# Altium footprint library Conn.AVX.PcbLib: 1 footprints
Each footprint in its own frame and in the unit in brackets; x right, y up, seen from the top. Pads: shape width x height; smd on the part's side, far side on the other; paste and mask are expansions set on the pad; w line width, h text height; cw(c..) or ccw(c..) is an arc to the next point about the centre after c.
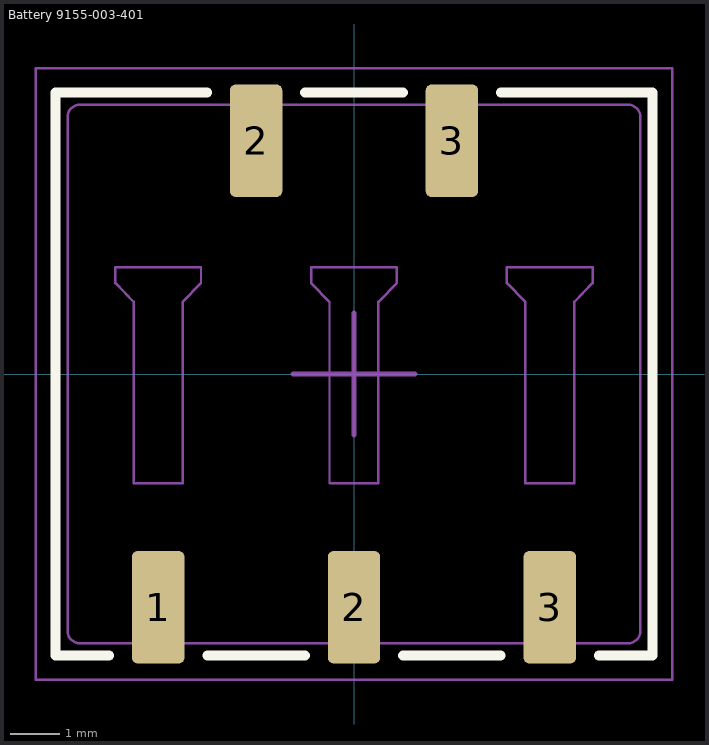
[diagram p0: the footprint, top view; thin cyan lines are the x and y axes]

## Battery 9155-003-401 [mm] "AVX Battery Connector, 3-Leads, 4.00mm Pitch"
height 4.9
pads (5):
  rrect20% 1.07x2.29 smd: 1(-4,-4.765) 2(-2,4.765) 2(0,-4.765) 3(2,4.765) 3(4,-4.765)
Top Overlay:
  lines w0.2: -5,-5.75 -6.1,-5.75 -6.1,5.75 -3,5.75 ; -3,-5.75 -1,-5.75 ; -1,5.75 1,5.75 ; 1,-5.75 3,-5.75 ; 3,5.75 6.1,5.75 6.1,-5.75 5,-5.75
Mechanical 1:
  lines w0.05: -4.38,-5.5 -4.38,-5.57 -3.62,-5.57 -3.62,-5.5 ; -2.37,5.5 -2.37,5.53 cw(c-2.27,5.53) -2.27,5.63 -1.71,5.63 cw(c-1.71,5.53) -1.61,5.53 -1.61,5.5 ; -0.38,-5.5 -0.38,-5.57 0.38,-5.57 0.38,-5.5 ; 1.63,5.5 1.63,5.53 cw(c1.73,5.53) 1.73,5.63 2.29,5.63 cw(c2.29,5.53) 2.39,5.53 2.39,5.5 ; 3.62,-5.5 3.62,-5.57 4.38,-5.57 4.38,-5.5 ; -5.85,-5.25 ccw(c-5.6,-5.25) -5.6,-5.5 5.6,-5.5 ccw(c5.6,-5.25) 5.85,-5.25 5.85,5.25 ccw(c5.6,5.25) 5.6,5.5 -5.6,5.5 ccw(c-5.6,5.25) -5.85,5.25 -5.85,-5.25 ; -4.875,1.856 -4.875,2.179 -3.125,2.179 -3.125,1.856 -3.5,1.473 -3.5,0.656 -3.5,-2.234 -4.5,-2.234 -4.5,0.656 -4.5,1.473 -4.875,1.856 ; -0.875,1.856 -0.875,2.179 0.875,2.179 0.875,1.856 0.5,1.473 0.5,0.656 0.5,-2.234 -0.5,-2.234 -0.5,0.656 -0.5,1.473 -0.875,1.856 ; 3.125,1.856 3.125,2.179 4.875,2.179 4.875,1.856 4.5,1.473 4.5,0.656 4.5,-2.234 3.5,-2.234 3.5,0.656 3.5,1.473 3.125,1.856
Mechanical 15:
  lines w0.05: -6.5,-6.25 6.5,-6.25 6.5,6.25 -6.5,6.25 -6.5,-6.25
  lines w0.1: -1.25,0 1.25,0 ; 0,-1.25 0,1.25
3D body "AVX-00-9155-003-401-006.STEP": height 5.9, standoff 0, extent -5.85,-5.57 5.85,5.63